# Altium integrated library GRM32ER61C476KE15L.IntLib: 1 symbol
Pins are listed as number, name and electrical type; pins without a type are passive.

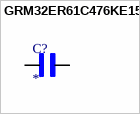
[diagram p0: symbol GRM32ER61C476KE15L]

## GRM32ER61C476KE15L
designator C?
SMD Capacitor X5R(EIA) with Capacitance: 47uF Tol. 10%. Rated Voltage: 16Vdc; MF: Murata Electronics; MP: GRM32ER61C476KE15L; SnapEDA_Link: https://www.snapeda.com/parts/GRM32ER61C476KE15L/Murata+Electronics+North+America/view-part/?ref=snap; Package: 3225 Murata; Value: *; Check_prices: https://www.snapeda.com/parts/GRM32ER61C476KE15L/Murata+Electronics+North+America/view-part/?ref=eda
footprint CAPC3225X270N
pins: 1, 2